# EAGLE library part 2514- (library growbot)
3M (TM) Pak 100 4-Wall Header Source: 3M
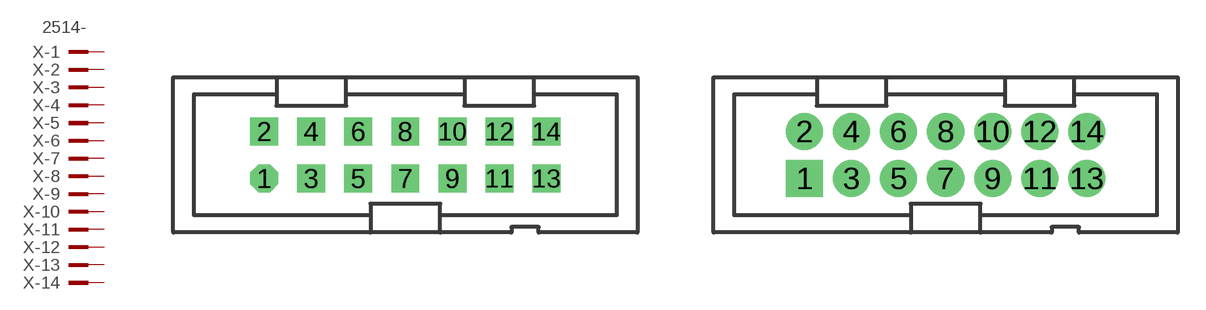
[diagram p12: symbol with the pads of PAK100/2500-14; footprints PAK100/2500-14, PAK100/2500-14T]

Designator prefix X; gates -1=PINV -2=PIN -3=PIN -4=PIN -5=PIN -6=PIN -7=PIN -8=PIN -9=PIN -10=PIN -11=PIN -12=PIN -13=PIN -14=PIN

## 2514- (OC_FARNELL: unknown; OC_NEWARK: unknown)  [PAK100/2500-14]
1  -1:KL  pas
2  -2:KL  pas
3  -3:KL  pas
4  -4:KL  pas
5  -5:KL  pas
6  -6:KL  pas
7  -7:KL  pas
8  -8:KL  pas
9  -9:KL  pas
10  -10:KL  pas
11  -11:KL  pas
12  -12:KL  pas
13  -13:KL  pas
14  -14:KL  pas

## 2514-_HM  [PAK100/2500-14T]
Pads as for PAK100/2500-14

## Footprint PAK100/2500-14 (pad centres in mm)
3M (TM) Pak 100 4-Wall Header Straight Source: 3M
drill 1 octagon: 1 -7.62,-1.27
drill 1 square: 2 -7.62,1.27; 3 -5.08,-1.27; 4 -5.08,1.27; 5 -2.54,-1.27; 6 -2.54,1.27; 7 0,-1.27; 8 0,1.27; 9 2.54,-1.27; 10 2.54,1.27; 11 5.08,-1.27; 12 5.08,1.27; 13 7.62,-1.27; 14 7.62,1.27

## Footprint PAK100/2500-14T (pad centres in mm)
drill 0.5 pad 2 square: 1 -7.62,-1.27
drill 0.5 pad 2: 2 -7.62,1.27; 3 -5.08,-1.27; 4 -5.08,1.27; 5 -2.54,-1.27; 6 -2.54,1.27; 7 0,-1.27; 8 0,1.27; 9 2.54,-1.27; 10 2.54,1.27; 11 5.08,-1.27; 12 5.08,1.27; 13 7.62,-1.27; 14 7.62,1.27